# Altium footprint library Tutorial PCB Library.PcbLib: 1 footprints
Each footprint in its own frame and in the unit in brackets; x right, y up, seen from the top. Pads: shape width x height; smd on the part's side, far side on the other; paste and mask are expansions set on the pad; w line width, h text height; cw(c..) or ccw(c..) is an arc to the next point about the centre after c.
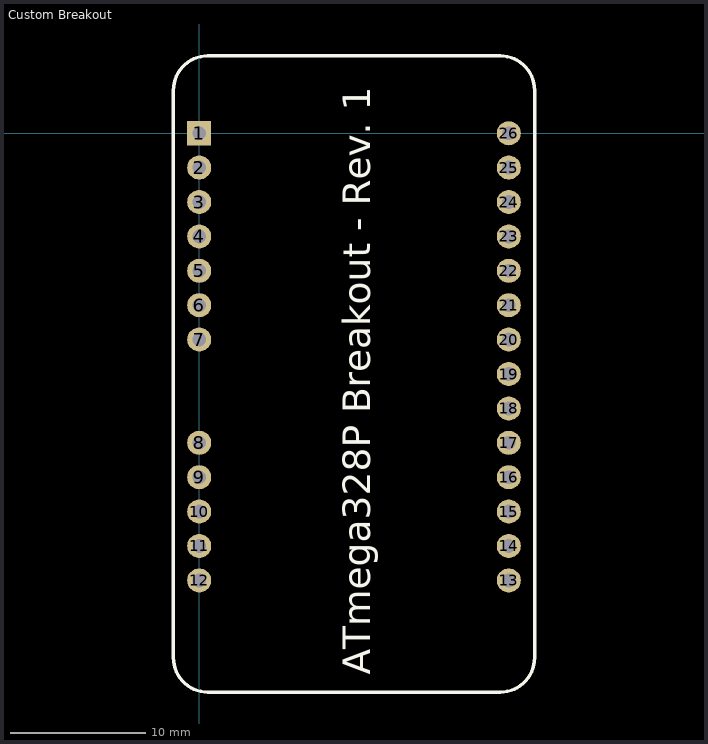
[diagram p0: the footprint, top view; thin cyan lines are the x and y axes]

## Custom Breakout [mil]
pads (26):
  rect 70x70 hole 40: 1(0,0)
  round 70 hole 40: 2(0,-100) 3(0,-200) 4(0,-300) 5(0,-400) 6(0,-500) 7(0,-600) 8(0,-900) 9(0,-1000) 10(0,-1100) 11(0,-1200) 12(0,-1300) 13(900,-1300) 14(900,-1200) 15(900,-1100) 16(900,-1000) 17(900,-900) 18(900,-800) 19(900,-700) 20(900,-600) 21(900,-500) 22(900,-400) 23(900,-300) 24(900,-200) 25(900,-100) 26(900,0)
Top Overlay:
  lines w10: -75,-1525 ccw(c25,-1525) 25,-1625 875,-1625 ccw(c875,-1525) 975,-1525 975,125 ccw(c875,125) 875,225 25,225 ccw(c25,125) -75,125 -75,-1525
  text "ATmega328P Breakout - Rev. 1" at 496.66,-1575 h80
3D body "ATmega328P Custom Breakout Board.step": height 443.71, standoff -238.71, extent -74.99,-1624.99 975,225